# Altium schematic symbol library RGB_LED.SchLib: 1 symbol
Pins are listed as number, name and electrical type; pins without a type are passive.

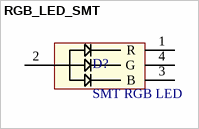
[diagram p0: symbol RGB_LED_SMT]

## RGB_LED_SMT
designator D?, comment SMT RGB LED
pins: 1 R, 2 V+, 3 B, 4 G